# Altium footprint library PcbLib.PcbLib: 35 footprints (part 2 of 3)
Each footprint in its own frame and in the unit in brackets; x right, y up, seen from the top. Pads: shape width x height; smd on the part's side, far side on the other; paste and mask are expansions set on the pad; w line width, h text height; cw(c..) or ccw(c..) is an arc to the next point about the centre after c.
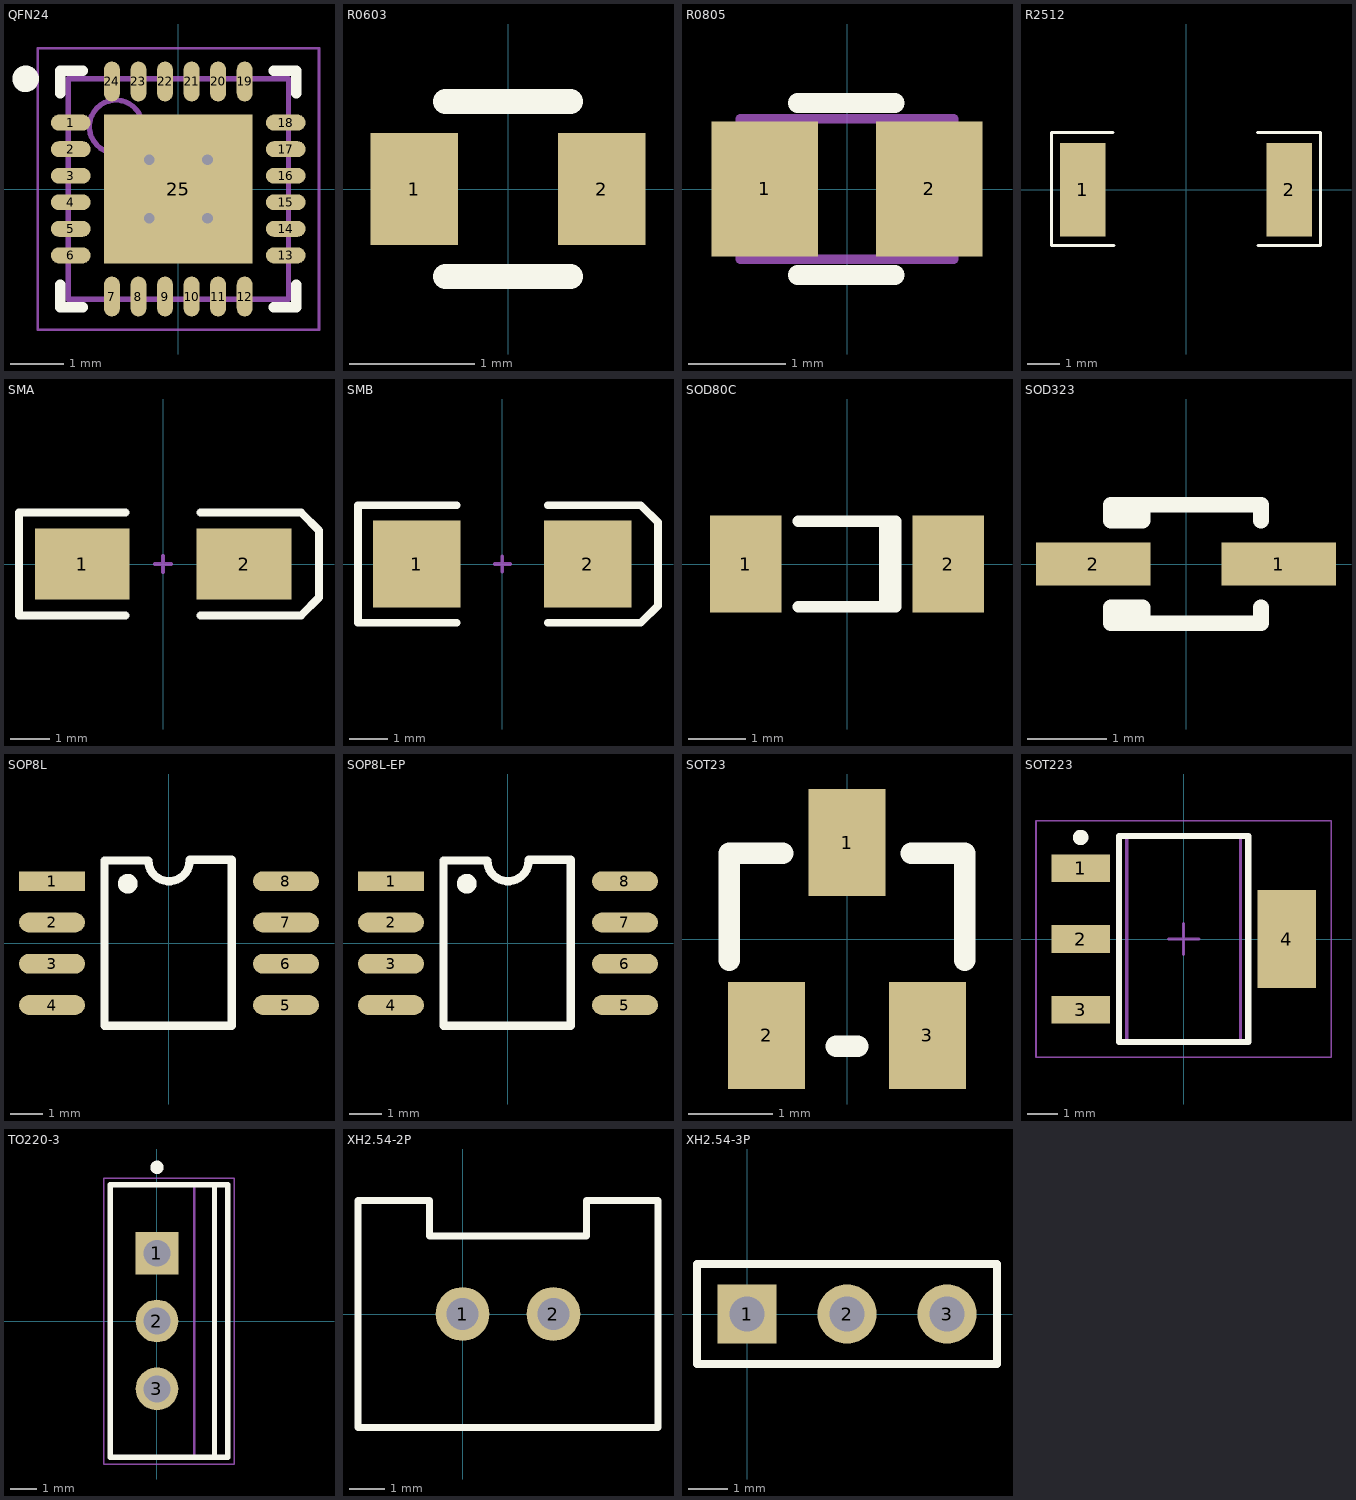
[diagram p1: the footprints below, top view; thin cyan lines are the x and y axes]

## POWER [mm] "POWER"
via 0,0 diameter 5 hole 2.5
via 0,2.435 diameter 1.5 hole 1
via 0,-2.435 diameter 1.5 hole 1

## QFN24 [mm] "QFN, 24-Leads, Body 4x4mm, Pitch 0.5mm, Thermal Pad 2.8x2.8mm, IPC Medium Density"
height 1
pads (25):
  oval 0.75x0.3 smd: 1(-2.025,1.25) 2(-2.025,0.75) 3(-2.025,0.25) 4(-2.025,-0.25) 5(-2.025,-0.75) 6(-2.025,-1.25) 13(2.025,-1.25) 14(2.025,-0.75) 15(2.025,-0.25) 16(2.025,0.25) 17(2.025,0.75) 18(2.025,1.25)
  oval 0.3x0.75 smd: 7(-1.25,-2.025) 8(-0.75,-2.025) 9(-0.25,-2.025) 10(0.25,-2.025) 11(0.75,-2.025) 12(1.25,-2.025) 19(1.25,2.025) 20(0.75,2.025) 21(0.25,2.025) 22(-0.25,2.025) 23(-0.75,2.025) 24(-1.25,2.025)
  rect 2.8x2.8 smd: 25(0,0)
via 0.55,-0.55 diameter 0.5 hole 0.2
via -0.55,-0.55 diameter 0.5 hole 0.2
via 0.55,0.55 diameter 0.5 hole 0.2
via -0.55,0.55 diameter 0.5 hole 0.2
Top Overlay:
  circle w0.25: c-2.875,2.075 r0.125
  lines w0.2: -2.225,-1.8 -2.225,-2.225 -1.8,-2.225 ; -2.225,1.8 -2.225,2.225 -1.8,2.225 ; 1.8,-2.225 2.225,-2.225 2.225,-1.8 ; 1.8,2.225 2.225,2.225 2.225,1.8
Mechanical 13:
  circle w0.1: c-1.175,1.175 r0.5
  lines w0.1: -2.075,-2.075 2.075,-2.075 2.075,2.075 -2.075,2.075 -2.075,-2.075
Mechanical 15:
  lines w0.05: -2.65,-2.65 2.65,-2.65 2.65,2.65 -2.65,2.65 -2.65,-2.65
  lines w0.1: -0.5,0 0.5,0 ; 0,-0.5 0,0.5
3D body: height 1, standoff 0, extent -2.075,-2.075 2.075,2.075

## R0603 [mm] "Chip Resistor, Body 2.0x1.3mm, IPC High Density"
pads (2):
  rect 0.7x0.9 smd: 1(-0.75,0) 2(0.75,0)
Top Overlay:
  lines w0.203: -0.5,-0.7 0.5,-0.7 ; -0.5,0.7 0.5,0.7
3D body "User Library-0603 SMD Resistor.STEP": height 0.3, standoff 0, extent -0.8,-0.4 0.8,0.4

## R0805 [mm] "Chip Resistor, Body 2.0x1.3mm, IPC High Density"
height 1.4
pads (2):
  rect 1.1x1.4 smd: 1(-0.85,0) 2(0.85,0)
Top Overlay:
  lines w0.203: -0.508,-0.889 0.492,-0.889 ; -0.508,0.889 0.492,0.889
Mechanical 13:
  lines w0.1: -1.1,-0.725 -1.1,0.725 1.1,0.725 1.1,-0.725 -1.1,-0.725
3D body "SW3dPS-0805 SMD Capacitor.STEP": height 0.78, standoff 0, extent -1,-0.625 1,0.625

## R2512 [mm] "Chip Resistor, Body 2.0x1.3mm, IPC High Density"
pads (2):
  rect 1.4x2.9 smd: 1(-3.2,0) 2(3.2,0)
Top Overlay:
  lines w0.1: -2.262,1.775 -4.166,1.775 -4.166,-1.725 -2.237,-1.725 ; 2.213,1.775 4.166,1.775 4.166,-1.725 2.238,-1.725
3D body: height 0.65, standoff 0, extent -3.162,-1.375 -2.662,1.35
3D body: height 0.65, standoff 0, extent -2.662,-1.375 2.688,1.352
3D body: height 0.65, standoff 0, extent 2.688,-1.375 3.188,1.35

## SMA [mm] "DO-214-AC/SMA; 2 C-Bend Leads; Body 5 x 2.7 mm, inc. leads (LxW)"
height 2.44
pads (2):
  rect 2.4x1.8 smd: 1(-2.05,0) 2(2.05,0)
Top Overlay:
  lines w0.2: -0.95,-1.3 -3.65,-1.3 -3.65,1.3 -0.95,1.3 ; 0.95,-1.3 3.5,-1.3 3.95,-0.85 3.95,0.85 3.5,1.3 0.95,1.3
Mechanical 1:
  lines w0.1: -0.2,0 0.2,0 ; 0,-0.2 0,0.2
3D body "User Library-DIOM5528X26.STEP": height 2.6, standoff 0.03, extent -2.75,-1.4 2.75,1.4

## SMB [mm] "DO-214-AA/SMB; 2 C-Bend Leads; Body 5.3 x 3.6 mm, inc. leads (LxW)"
height 2.54
pads (2):
  rect 2.3x2.3 smd: 1(-2.25,0) 2(2.25,0)
Top Overlay:
  lines w0.2: -1.2,-1.55 -3.8,-1.55 -3.8,1.55 -1.2,1.55 ; 1.2,-1.55 3.65,-1.55 4.1,-1.1 4.1,1.1 3.65,1.55 1.2,1.55
Mechanical 1:
  lines w0.1: -0.2,0 0.2,0 ; 0,-0.2 0,0.2
3D body "User Library-DIOM5539X24.STEP": height 2.45, standoff 0.03, extent -2.75,-1.95 2.75,1.95

## SOD80C [mm] "Metal Electrode Face (MELF) Diode; Body 3.5 x 1.6 mm (LxDia)"
height 1.6
pads (2):
  rect 1.25x1.7 smd: 1(-1.775,0) 2(1.775,0)
Top Overlay:
  lines w0.2: -0.85,-0.75 0.85,-0.75 0.85,0.75 -0.85,0.75 ; 0.66,-0.75 0.66,0.75
3D body "User Library-SOD80-3.STEP": height 1.5, standoff 0, extent -1.778,-0.75 1.822,0.75

## SOD323 [mm] "SOD323"
pads (2):
  rect 1.45x0.55 smd: 1(1.175,0) 2(-1.175,0)
Top Overlay:
  lines w0.2: -0.55,-0.75 -0.55,-0.55 -0.95,-0.55 -0.95,-0.75 0.95,-0.75 0.95,-0.55 ; -0.55,0.75 -0.55,0.55 -0.95,0.55 -0.95,0.75 0.95,0.75 0.95,0.55
3D body "User Library-SOD323.STEP": height 0.9, standoff -0.09, extent -1.25,-0.635 1.25,0.615

## SOP8L [mil]
pads (8):
  rect 80x24 smd: 1(-141.73,75)
  oval 80x24 smd: 2(-141.73,25) 3(-141.73,-25) 4(-141.73,-75) 5(141.73,-75) 6(141.73,-25) 7(141.73,25) 8(141.73,75)
Top Overlay:
  circle w12: c-50,72 r6
  lines w10: 25,100 cw(c0,100) -25,100 -78,100 -78,-100 76,-100 76,101 25,101
3D body "SOP8.stp": height 61.02, standoff -2.36, extent -120.05,-99.42 124.05,97.43

## SOP8L-EP [mil]
pads (8):
  rect 80x24 smd: 1(-141.73,75)
  oval 80x24 smd: 2(-141.73,25) 3(-141.73,-25) 4(-141.73,-75) 5(141.73,-75) 6(141.73,-25) 7(141.73,25) 8(141.73,75)
Top Overlay:
  circle w12: c-50,72 r6
  lines w10: 25,100 cw(c0,100) -25,100 -78,100 -78,-100 76,-100 76,101 25,101
3D body "SOP8.stp": height 61.02, standoff -2.36, extent -120.05,-99.42 124.05,97.43

## SOT23 [mil]
pads (3):
  rect 36x50 smd: 1(0,45) 2(-37.5,-45) 3(37.5,-45)
Top Overlay:
  lines w10: -55,-10 -55,40 -30,40 ; -5,-50 5,-50 ; 30,40 55,40 55,-10
3D body "sot23-3.STEP": height 39.37, standoff -0.79, extent -57.48,-47 57.48,50.48

## SOT223 [mm] "SOT223, 4-Leads, Body 6.5x3.5mm, Pitch 2.3mm, IPC Low Density"
height 1.8
pads (4):
  rect 1.9x0.9 smd: 1(-3.35,2.3) 2(-3.35,0) 3(-3.35,-2.3)
  rect 1.9x3.2 smd: 4(3.35,0)
Top Overlay:
  circle w0.25: c-3.35,3.3 r0.125
  lines w0.2: -2.1,-3.35 2.1,-3.35 2.1,3.35 -2.1,3.35 -2.1,-3.35
Mechanical 13:
  lines w0.1: -1.85,-3.35 1.85,-3.35 1.85,3.35 -1.85,3.35 -1.85,-3.35
Mechanical 15:
  lines w0.05: -4.8,-3.85 4.8,-3.85 4.8,3.85 -4.8,3.85 -4.8,-3.85
  lines w0.1: -0.5,0 0.5,0 ; 0,-0.5 0,0.5
3D body "SW3DPS-SOT-223-DEFAULT.STEP": height 1.65, standoff -0.03, extent -3.48,-3.25 3.48,3.25

## TO220-3 [mm] "FM, 3-Leads, Body 10x4.4mm, Pitch 2.54mm"
height 20.7
pads (3):
  rect 1.6x1.6 hole 1: 1(0,2.54)
  round 1.6 hole 1: 2(0,0) 3(0,-2.54)
Top Overlay:
  circle w0.25: c0,5.75 r0.125
  lines w0.2: 2.15,-5.1 2.15,5.1 ; -1.75,-5.1 2.65,-5.1 2.65,5.1 -1.75,5.1 -1.75,-5.1
Mechanical 13:
  lines w0.1: 1.4,-5.1 1.4,5.1 ; -1.75,-5.1 -1.75,5.1 2.65,5.1 2.65,-5.1 -1.75,-5.1
Mechanical 15:
  lines w0.05: -2,-5.35 -2,5.35 2.9,5.35 2.9,-5.35 -2,-5.35
  lines w0.1: -0.5,0 0.5,0 ; 0,-0.5 0,0.5
3D body: height 4.35, standoff 0, extent -0.25,2.015 0.25,3.065
3D body: height 0, standoff -1.6, extent -0.25,2.165 0.25,2.915
3D body: height 4.35, standoff 0, extent -0.25,-0.525 0.25,0.525
3D body: height 0, standoff -1.6, extent -0.25,-0.375 0.25,0.375
3D body: height 4.35, standoff 0, extent -0.25,-3.065 0.25,-2.015
3D body: height 0, standoff -1.6, extent -0.25,-2.915 0.25,-2.165
3D body: height 14.3, standoff 4.35, extent -1.75,-5.1 2.65,5.1
3D body: height 16.08, standoff 14.3, extent 1.4,-4.95 2.65,4.95
3D body: height 16.12, standoff 16.08, extent 1.4,0.356 2.65,4.95
3D body: height 16.12, standoff 16.08, extent 1.4,-4.95 2.65,-0.356
3D body: height 19.73, standoff 19.69, extent 1.4,0.356 2.65,4.95
3D body: height 19.73, standoff 19.69, extent 1.4,-4.95 2.65,-0.356
3D body: height 16.22, standoff 16.11, extent 1.4,0.698 2.65,4.95
3D body: height 16.22, standoff 16.11, extent 1.4,-4.95 2.65,-0.698
3D body: height 19.69, standoff 19.59, extent 1.4,0.698 2.65,4.95
3D body: height 19.69, standoff 19.59, extent 1.4,-4.95 2.65,-0.698
3D body: height 16.39, standoff 16.21, extent 1.4,1.014 2.65,4.95
3D body: height 16.39, standoff 16.21, extent 1.4,-4.95 2.65,-1.014
3D body: height 19.59, standoff 19.42, extent 1.4,1.014 2.65,4.95
3D body: height 19.59, standoff 19.42, extent 1.4,-4.95 2.65,-1.014
3D body: height 16.61, standoff 16.38, extent 1.4,1.29 2.65,4.95
3D body: height 16.61, standoff 16.38, extent 1.4,-4.95 2.65,-1.29
3D body: height 19.42, standoff 19.19, extent 1.4,1.29 2.65,4.95
3D body: height 19.42, standoff 19.19, extent 1.4,-4.95 2.65,-1.29
3D body: height 16.89, standoff 16.61, extent 1.4,1.517 2.65,4.95
3D body: height 16.89, standoff 16.61, extent 1.4,-4.95 2.65,-1.517
3D body: height 19.2, standoff 18.91, extent 1.4,1.517 2.65,4.95
3D body: height 19.2, standoff 18.91, extent 1.4,-4.95 2.65,-1.517
3D body: height 17.21, standoff 16.89, extent 1.4,1.686 2.65,4.95
3D body: height 17.21, standoff 16.89, extent 1.4,-4.95 2.65,-1.686
3D body: height 18.92, standoff 18.6, extent 1.4,1.686 2.65,4.95
3D body: height 18.92, standoff 18.6, extent 1.4,-4.95 2.65,-1.686
3D body: height 17.55, standoff 17.2, extent 1.4,1.79 2.65,4.95
3D body: height 17.55, standoff 17.2, extent 1.4,-4.95 2.65,-1.79
3D body: height 18.6, standoff 18.26, extent 1.4,1.79 2.65,4.95
3D body: height 18.6, standoff 18.26, extent 1.4,-4.95 2.65,-1.79
3D body: height 17.9, standoff 17.54, extent 1.4,1.825 2.65,4.95
3D body: height 17.9, standoff 17.54, extent 1.4,-4.95 2.65,-1.825
3D body: height 18.26, standoff 17.9, extent 1.4,1.825 2.65,4.95
3D body: height 18.26, standoff 17.9, extent 1.4,-4.95 2.65,-1.825
3D body: height 20.7, standoff 19.73, extent 1.4,-4.95 2.65,4.95

## XH2.54-2P [mm] "Connector; Header; 2 Position"
pads (2):
  round 1.5 hole 0.9: 1(0,0) 2(2.54,0)
Top Overlay:
  lines w0.2: -2.921,-3.175 5.461,-3.175 5.461,3.175 3.461,3.175 3.461,2.175 -0.921,2.175 -0.921,3.175 -2.921,3.175 -2.921,-3.175
3D body "User Library-XH2_54_2PIN.STEP": height 7, standoff -4, extent -2.73,-2.952 5.27,3.048

## XH2.54-3P [mm] "Connector; Header; 3 Position"
pads (3):
  rect 1.5x1.5 hole 0.9: 1(0,0)
  round 1.5 hole 0.9: 2(2.54,0) 3(5.08,0)
Top Overlay:
  lines w0.2: -1.27,-1.27 6.35,-1.27 6.35,1.27 -1.27,1.27 -1.27,-1.27